# Altium schematic symbol library Crystals.SchLib: 1 symbol
Pins are listed as number, name and electrical type; pins without a type are passive.

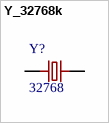
[diagram p0: symbol Y_32768k]

## Y_32768k
designator Y?, comment 32768
32768k Crystal; MP: ECS-40-18-10X; MF: ECS Inc.; SnapEDA_Link: https://www.snapeda.com/parts/ECS-40-18-10X/ECS%20Inc./view-part/?ref=snap; Price: None; Availability: Unavailable; Package: Cylindrical Can Radial  ECS International; Value: *
footprint CYL
pins: 1, 2